# Altium footprint library WCE_thesis.PcbLib: 11 footprints
Each footprint in its own frame and in the unit in brackets; x right, y up, seen from the top. Pads: shape width x height; smd on the part's side, far side on the other; paste and mask are expansions set on the pad; w line width, h text height; cw(c..) or ccw(c..) is an arc to the next point about the centre after c.
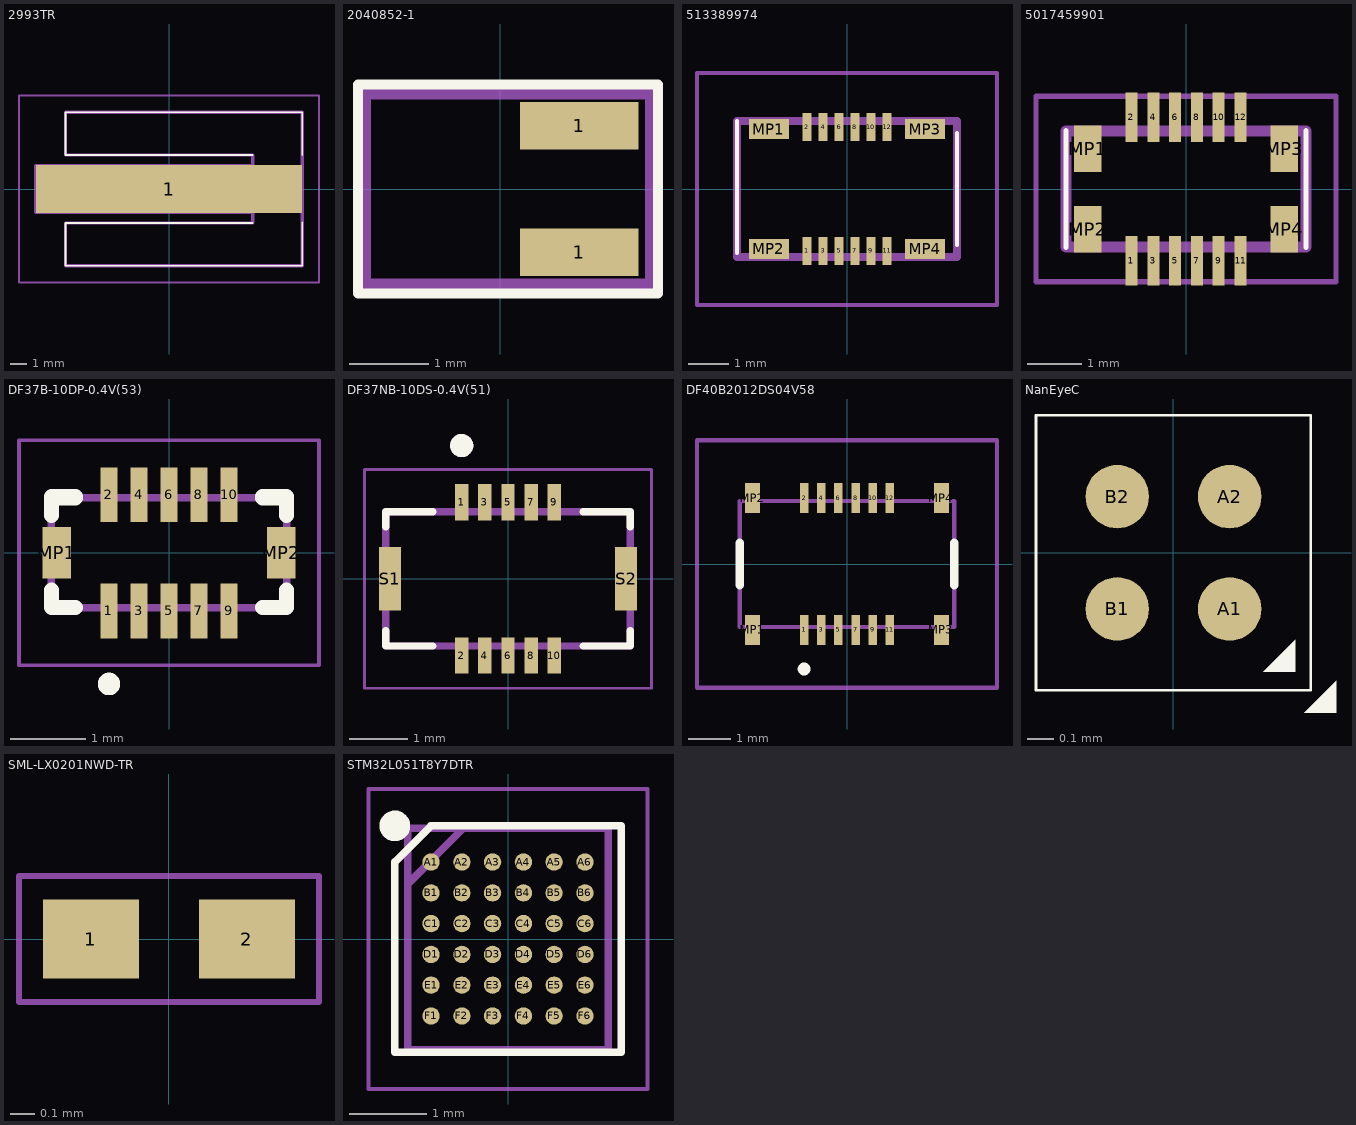
[diagram p0: the footprints below, top view; thin cyan lines are the x and y axes]

## 2993TR [mm]
pads (1):
  rect 15.88x2.85 smd: 1(0,0)
Top Overlay:
  lines w0.1: 5,-2.03 -6.17,-2.03 -6.17,-4.57 7.94,-4.57 7.94,-2 ; 5,2.03 -6.17,2.03 -6.17,4.57 7.94,4.57 7.94,2.03
Mechanical 13:
  lines w0.2: 4.94,-1.395 -7.94,-1.395 -7.94,1.395 5,1.395 ; -6.17,-4.57 7.94,-4.57 7.94,4.57 -6.17,4.57 -6.17,2.03 5,2.03 5,-2.03 -6.17,-2.03 -6.17,-4.57
Mechanical 15:
  lines w0.1: -8.94,-5.57 -8.94,5.57 8.94,5.57 8.94,-5.57 -8.94,-5.57
3D body "2993TR--3DModel-STEP-56544.STEP": height 2.67, standoff 0, extent -7.94,-4.572 7.935,4.572

## 2040852-1 [mm] "PCB Spring"
pads (2):
  rect 1.5x0.6 smd: 1(1,-0.8) 1(1,0.8)
Top Overlay:
  lines w0.127: -1.8,-1.325 2,-1.325 2,1.325 -1.8,1.325 -1.8,-1.325
Mechanical 1:
  lines w0.127: -1.8,-1.3 2,-1.3 2,1.3 -1.8,1.3 -1.8,-1.3
Mechanical 15:
  lines w0.127: -1.7,-1.2 1.9,-1.2 1.9,1.2 -1.7,1.2 -1.7,-1.2
3D body "c-2040852-1-a-3d.stp": height 0.81, standoff 0.01, extent -1.65,-1 1.75,1

## 513389974 [mm]
pads (16):
  rect 0.22x0.7 smd: 1(-1,-1.55) 2(-1,1.55) 3(-0.6,-1.55) 4(-0.6,1.55) 5(-0.2,-1.55) 6(-0.2,1.55) 7(0.2,-1.55) 8(0.2,1.55) 9(0.6,-1.55) 10(0.6,1.55) 11(1,-1.55) 12(1,1.55)
  rect 1x0.5 smd: MP1(-1.95,1.5) MP2(-1.95,-1.5) MP3(1.95,1.5) MP4(1.95,-1.5)
Top Overlay:
  lines w0.1: -2.75,-1.6 -2.75,1.7 ; 2.75,-1.4 2.75,1.4
Mechanical 13:
  lines w0.2: -2.75,-1.7 -2.75,1.7 2.75,1.7 2.75,-1.7 -2.75,-1.7
Mechanical 15:
  lines w0.1: -3.75,-2.9 -3.75,2.9 3.75,2.9 3.75,-2.9 -3.75,-2.9
3D body "51338-9974.stp": height 1.42, standoff 0.02, extent -2.75,-1.705 2.75,1.705

## 5017459901 [mm]
pads (16):
  rect 0.22x0.9 smd: 1(-1,-1.315) 2(-1,1.315) 3(-0.6,-1.315) 4(-0.6,1.315) 5(-0.2,-1.315) 6(-0.2,1.315) 7(0.2,-1.315) 8(0.2,1.315) 9(0.6,-1.315) 10(0.6,1.315) 11(1,-1.315) 12(1,1.315)
  rect 0.5x0.85 smd: MP1(-1.8,0.74) MP2(-1.8,-0.74) MP3(1.8,0.74) MP4(1.8,-0.74)
Top Overlay:
  lines w0.1: -2.2,-1.065 -2.2,1.065 ; 2.2,-1.065 2.2,1.065
Mechanical 13:
  lines w0.2: -2.2,-1.065 2.2,-1.065 2.2,1.065 -2.2,1.065 -2.2,-1.065
Mechanical 15:
  lines w0.1: -2.75,-1.7 2.75,-1.7 2.75,1.7 -2.75,1.7 -2.75,-1.7
3D body "5017459901.stp": height 1.65, standoff -0.05, extent -2.2,-1.565 2.2,1.565

## DF37B-10DP-0.4V(53) [mm]
pads (12):
  rect 0.23x0.73 smd: 1(-0.8,-0.775) 2(-0.8,0.775) 3(-0.4,-0.775) 4(-0.4,0.775) 5(0,-0.775) 6(0,0.775) 7(0.4,-0.775) 8(0.4,0.775) 9(0.8,-0.775) 10(0.8,0.775)
  rect 0.38x0.68 smd: MP1(-1.5,0) MP2(1.5,0)
Top Overlay:
  lines w0.2: -1.57,-0.73 -1.57,-0.5 -1.57,-0.73 ; -1.57,-0.73 -1.25,-0.73 -1.57,-0.73 ; -1.57,0.73 -1.57,0.75 -1.25,0.75 -1.25,0.73 -1.57,0.73 ; -1.57,0.73 -1.57,0.5 -1.57,0.73 ; -0.8,-1.8 ccw(c-0.8,-1.75) -0.8,-1.7 ; -0.8,-1.8 cw(c-0.8,-1.75) -0.8,-1.7 ; -0.8,-1.8 ccw(c-0.8,-1.75) -0.8,-1.7 ; 1.57,-0.73 1.57,-0.5 1.57,-0.73 ; 1.57,-0.73 1.25,-0.73 1.57,-0.73 ; 1.57,0.73 1.57,0.5 1.57,0.73 ; 1.57,0.73 1.25,0.73 1.25,0.75 1.57,0.75 1.57,0.73
Mechanical 13:
  lines w0.1: -1.57,-0.73 1.57,-0.73 1.57,0.73 -1.57,0.73 -1.57,-0.73
Mechanical 15:
  lines w0.05: -2,-1.5 -2,1.5 2,1.5 2,-1.5 -2,-1.5
3D body "DF37B-10DP-0.4V.stp": height 0.76, standoff 0, extent -1.575,-0.99 1.565,0.99

## DF37NB-10DS-0.4V(51) [mm]
pads (12):
  rect 0.23x0.63 smd paste-1: 1(-0.8,1.325) 2(-0.8,-1.325) 3(-0.4,1.325) 4(-0.4,-1.325) 5(0,1.325) 6(0,-1.325) 7(0.4,1.325) 8(0.4,-1.325) 9(0.8,1.325) 10(0.8,-1.325)
  rect 0.38x1.1 smd: S1(-2.04,0) S2(2.04,0)
Top Overlay:
  circle w0.2: c-0.8,2.3 r0.1
  lines w0.127: -2.11,-0.9 -2.11,-1.16 -1.3,-1.16 ; -2.11,0.9 -2.11,1.16 -1.3,1.16 ; 1.3,-1.16 2.11,-1.16 2.11,-0.9 ; 1.3,1.16 2.11,1.16 2.11,0.9
Mechanical 13:
  circle w0.2: c-0.8,2.3 r0.1
  lines w0.127: -2.11,-1.16 2.11,-1.16 2.11,1.16 -2.11,1.16 -2.11,-1.16
Mechanical 15:
  lines w0.05: -2.48,-1.89 2.48,-1.89 2.48,1.89 -2.48,1.89 -2.48,-1.89
3D body "step_temp.STEP": height 0.96, standoff -0.02, extent -2.11,-1.48 2.11,1.5

## DF40B2012DS04V58 [mm]
pads (16):
  rect 0.2x0.7 smd: 1(-1,-1.54) 2(-1,1.54) 3(-0.6,-1.54) 4(-0.6,1.54) 5(-0.2,-1.54) 6(-0.2,1.54) 7(0.2,-1.54) 8(0.2,1.54) 9(0.6,-1.54) 10(0.6,1.54) 11(1,-1.54) 12(1,1.54)
  rect 0.35x0.7 smd: MP1(-2.2,-1.54) MP2(-2.2,1.54) MP3(2.2,-1.54) MP4(2.2,1.54)
Top Overlay:
  lines w0.2: -1,-2.5 cw(c-1,-2.45) -1,-2.4 ; -1,-2.5 ccw(c-1,-2.45) -1,-2.4 ; -1,-2.5 cw(c-1,-2.45) -1,-2.4 ; -2.5,-0.5 -2.5,0.5 -2.5,-0.5 ; 2.5,-0.5 2.5,0.5 2.5,-0.5
Mechanical 13:
  lines w0.1: -2.5,-1.47 -2.5,1.47 2.5,1.47 2.5,-1.47 -2.5,-1.47
Mechanical 15:
  lines w0.1: -3.5,-2.89 -3.5,2.89 3.5,2.89 3.5,-2.89 -3.5,-2.89
3D body "DF40B_2.0_-12DS-0.4V_58_.stp": height 4.9, standoff 0, extent -2.5,-1.87 2.5,1.87

## Mec_support_Battery_VDD [mm]
via 0,0 diameter 1.35 hole 1
3D body "PCB_header_3M_254mm_929647-07-36-I.SLDPRT": height 18.5, standoff -1.5, extent -0.32,-0.32 0.32,0.32

## NanEyeC [mm]
height 2.162
pads (4):
  round 0.24 smd mask+0.05: A1(0.213,-0.212) B1(-0.212,-0.212) B2(-0.212,0.213)
  round 0.24 smd paste+0 mask+0.05: A2(0.213,0.213)
Top Overlay:
  region: 0.46,-0.33 0.46,-0.45 0.34,-0.45
  region: 0.615,-0.485 0.615,-0.605 0.495,-0.605
  lines w0.01: -0.52,-0.52 0.52,-0.52 0.52,0.52 -0.52,0.52 -0.52,-0.52
Top Solder:
  rectangle: 0.07,0.07 0.35,0.35
  rectangle: 0.07,-0.35 0.35,-0.07
  rectangle: -0.35,-0.35 -0.07,-0.07
  rectangle: -0.35,0.07 -0.07,0.35
3D body "NanEyeC.STEP": height 2.17, standoff -0.11, extent -0.52,-0.515 0.52,0.525

## SML-LX0201NWD-TR [mm]
pads (2):
  rect 0.4x0.33 smd: 1(-0.325,0) 2(0.325,0)
Mechanical 13:
  lines w0.025: -0.625,-0.263 0.625,-0.263 0.625,0.263 -0.625,0.263 -0.625,-0.263
Mechanical 15:
  lines w0.025: -0.625,-0.263 0.625,-0.263 0.625,0.263 -0.625,0.263 -0.625,-0.263
3D body "LED_SML-LX0201NWD-TR_LUM.step": height 0.46, standoff 0, extent -0.381,-0.241 0.381,0.241

## STM32L051T8Y7DTR [mm]
pads (36):
  round 0.225 smd mask+0.05: A1(-1,1) A2(-0.6,1) A3(-0.2,1) A4(0.2,1) A5(0.6,1) A6(1,1) B1(-1,0.6) B2(-0.6,0.6) B3(-0.2,0.6) B4(0.2,0.6) B5(0.6,0.6) B6(1,0.6) C1(-1,0.2) C2(-0.6,0.2) C3(-0.2,0.2) C4(0.2,0.2) C5(0.6,0.2) C6(1,0.2) D1(-1,-0.2) D2(-0.6,-0.2) D3(-0.2,-0.2) D4(0.2,-0.2) D5(0.6,-0.2) D6(1,-0.2) E1(-1,-0.6) E2(-0.6,-0.6) E3(-0.2,-0.6) E4(0.2,-0.6) E5(0.6,-0.6) E6(1,-0.6) F1(-1,-1) F2(-0.6,-1) F3(-0.2,-1) F4(0.2,-1) F5(0.6,-1) F6(1,-1)
Top Overlay:
  circle w0.2: c-1.471,1.471 r0.1
  lines w0.1: -1.471,-1.471 -1.471,1 -1,1.471 1.471,1.471 1.471,-1.471 -1.471,-1.471
Mechanical 13:
  lines w0.1: -1.305,0.715 -0.58,1.44 ; -1.305,-1.44 -1.305,1.44 1.305,1.44 1.305,-1.44 -1.305,-1.44
Mechanical 15:
  lines w0.05: -1.815,-1.95 -1.815,1.95 1.815,1.95 1.815,-1.95 -1.815,-1.95
3D body "STM32L051T8Y7DTR.stp": height 0.59, standoff 0, extent -1.305,-1.44 1.305,1.44